# EAGLE library part MICRO-SD-SD4 (library airball)
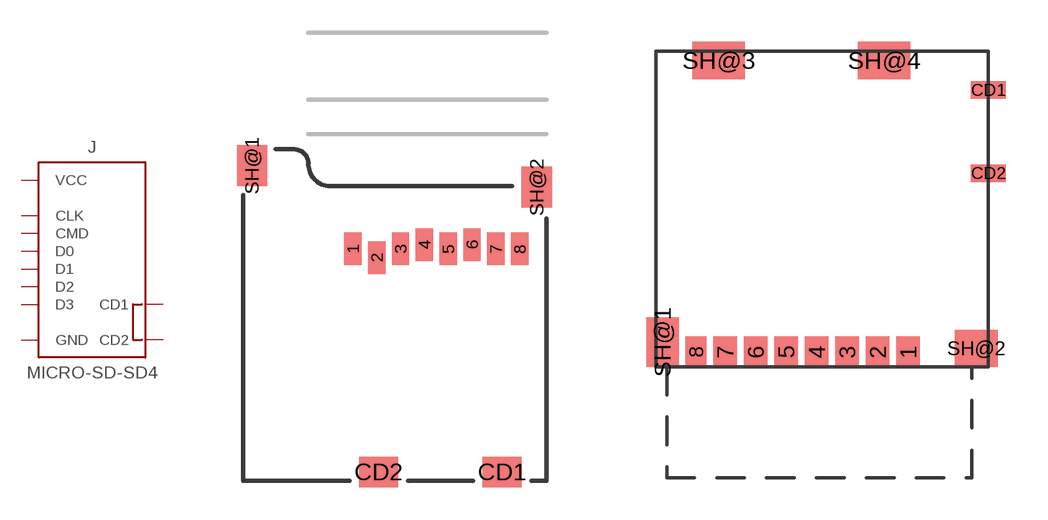
[diagram p11: symbol with the pads of MICRO-SD-SOCKET; footprints MICRO-SD-SOCKET, MOLEX_MICRO_SD_104031]

Designator prefix J

## MICRO-SD-SD4  [MICRO-SD-SOCKET]
1  D2
2  D3
3  CMD  in
4  VCC  pwr
5  CLK  in
6  GND  pwr
7  D0
8  D1
CD1  CD1
CD2  CD2
SH@1  GND  pwr
SH@2  GND  pwr

## MICRO-SD-SD4-MOLEX_104031  [MOLEX_MICRO_SD_104031]
1  D2
2  D3
3  CMD  in
4  VCC  pwr
5  CLK  in
6  GND  pwr
7  D0
8  D1
CD1  CD1
CD2  CD2
SH@1  GND  pwr
SH@2  GND  pwr
SH@3  GND  pwr
SH@4  GND  pwr

## Footprint MICRO-SD-SOCKET (pad centres in mm)
microSD Socket SMD Puhs-Push type. tDocu shows location of uSD card in different positions. Specifications: Pin count:12 Datasheet referenced for footprint <http://www.4uconnector.com/online/object/4udrawing/15882.pdf> Example device(s): MICRO-SD_CARD_SOCKET
smd 0.8 x 1.5: 1 -8.94,10.7; 2 -7.84,10.3; 3 -6.74,10.7; 4 -5.64,10.9; 5 -4.54,10.7; 6 -3.44,10.9; 7 -2.34,10.7; 8 -1.24,10.7
smd 1.8 x 1.4: CD1 -2.05,0.4; CD2 -7.75,0.4
smd 1.4 x 1.9: SH@1 -13.6,14.55; SH@2 -0.45,13.55

## Footprint MOLEX_MICRO_SD_104031 (pad centres in mm)
smd 0.85 x 1.1: 1 3.105,0.55; 2 2.005,0.55; 3 0.905,0.55; 4 -0.195,0.55; 5 -1.295,0.55; 6 -2.395,0.55; 7 -3.495,0.55
smd 0.75 x 1.1: 8 -4.545,0.55
smd 1.27 x 0.635: CD1 6,10; CD2 6,7
smd 1.17 x 1.8: SH@1 -5.755,0.9
smd 1.55 x 1.35: SH@2 5.565,0.675
smd 1.9 x 1.35: SH@3 -3.73,11.075; SH@4 2.24,11.075